# EAGLE library part SAMTEC-TFM-120-01-X-D-RA (library SAMTEC-TFM-120-01-X-D-RA)
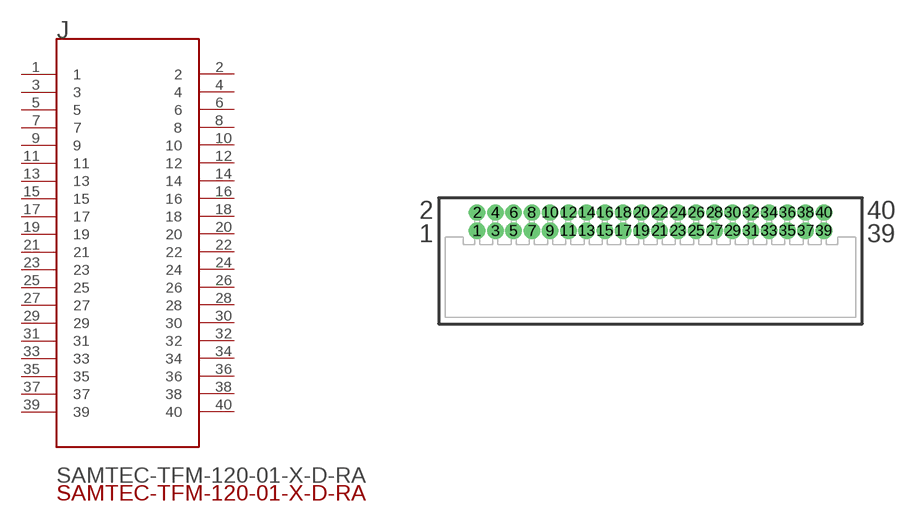
[diagram p0: symbol with the pads of SAMTEC-TFM-120-01-X-D-RA; footprint SAMTEC-TFM-120-01-X-D-RA]

Designator prefix J

## SAMTEC-TFM-120-01-X-D-RA  [SAMTEC-TFM-120-01-X-D-RA]
1  1  pas
2  2  pas
3  3  pas
4  4  pas
5  5  pas
6  6  pas
7  7  pas
8  8  pas
9  9  pas
10  10  pas
11  11  pas
12  12  pas
13  13  pas
14  14  pas
15  15  pas
16  16  pas
17  17  pas
18  18  pas
19  19  pas
20  20  pas
21  21  pas
22  22  pas
23  23  pas
24  24  pas
25  25  pas
26  26  pas
27  27  pas
28  28  pas
29  29  pas
30  30  pas
31  31  pas
32  32  pas
33  33  pas
34  34  pas
35  35  pas
36  36  pas
37  37  pas
38  38  pas
39  39  pas
40  40  pas

## Footprint SAMTEC-TFM-120-01-X-D-RA (pad centres in mm)
translated Allegro footprint
drill 0.635 pad 1.016: 1 -12.065,3.238; 2 -12.065,4.508; 3 -10.795,3.238; 4 -10.795,4.508; 5 -9.525,3.238; 6 -9.525,4.508; 7 -8.255,3.238; 8 -8.255,4.508; 9 -6.985,3.238; 10 -6.985,4.508; 11 -5.715,3.238; 12 -5.715,4.508; 13 -4.445,3.238; 14 -4.445,4.508; 15 -3.175,3.238; 16 -3.175,4.508; 17 -1.905,3.238; 18 -1.905,4.508; 19 -0.635,3.238; 20 -0.635,4.508; 21 0.635,3.238; 22 0.635,4.508; 23 1.905,3.238; 24 1.905,4.508; 25 3.175,3.238; 26 3.175,4.508; 27 4.445,3.238; 28 4.445,4.508; 29 5.715,3.238; 30 5.715,4.508; 31 6.985,3.238; 32 6.985,4.508; 33 8.255,3.238; 34 8.255,4.508; 35 9.525,3.238; 36 9.525,4.508; 37 10.795,3.238; 38 10.795,4.508; 39 12.065,3.238; 40 12.065,4.508